# EAGLE library part 88-00153-02 (library circuit_tree)
IC
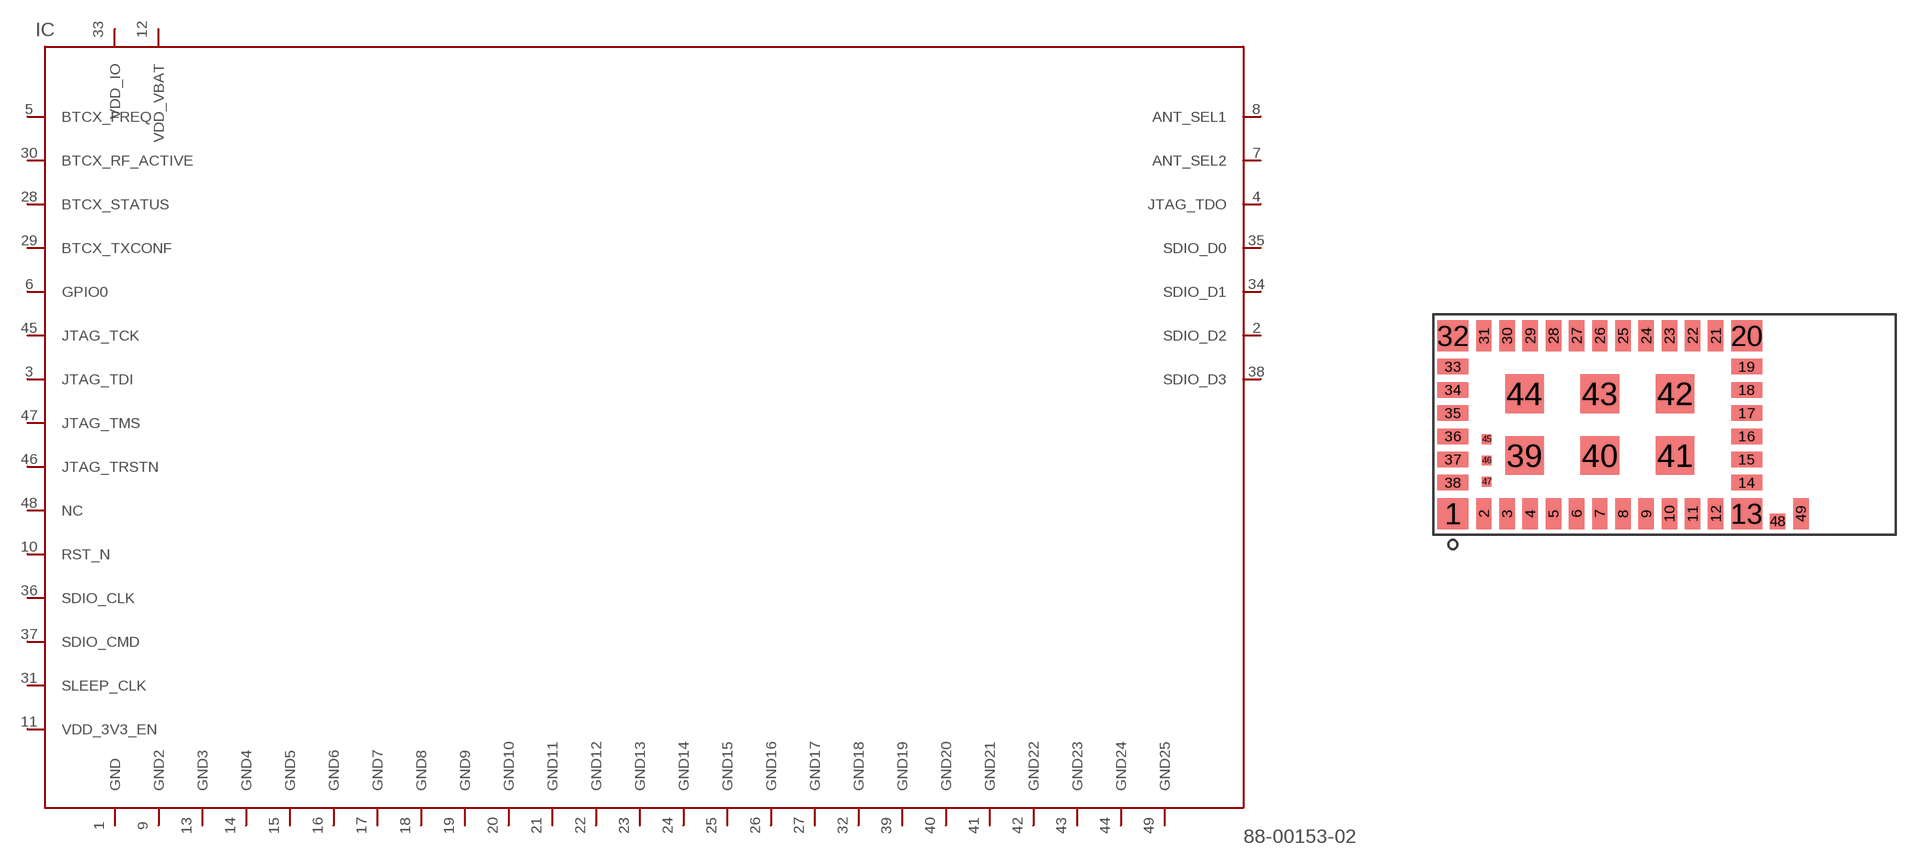
[diagram p1: symbol with the pads of 88-00153-02; footprint 88-00153-02]

Designator prefix IC

## 88-00153-02  [88-00153-02]
1  GND  pas
2  SDIO_D2  pas
3  JTAG_TDI  pas
4  JTAG_TDO  pas
5  BTCX_FREQ  pas
6  GPIO0  pas
7  ANT_SEL2  pas
8  ANT_SEL1  pas
9  GND2  pas
10  RST_N  pas
11  VDD_3V3_EN  pas
12  VDD_VBAT  pas
13  GND3  pas
14  GND4  pas
15  GND5  pas
16  GND6  pas
17  GND7  pas
18  GND8  pas
19  GND9  pas
20  GND10  pas
21  GND11  pas
22  GND12  pas
23  GND13  pas
24  GND14  pas
25  GND15  pas
26  GND16  pas
27  GND17  pas
28  BTCX_STATUS  pas
29  BTCX_TXCONF  pas
30  BTCX_RF_ACTIVE  pas
31  SLEEP_CLK  pas
32  GND18  pas
33  VDD_IO  pas
34  SDIO_D1  pas
35  SDIO_D0  pas
36  SDIO_CLK  pas
37  SDIO_CMD  pas
38  SDIO_D3  pas
39  GND19  pas
40  GND20  pas
41  GND21  pas
42  GND22  pas
43  GND23  pas
44  GND24  pas
45  JTAG_TCK  pas
46  JTAG_TRSTN  pas
47  JTAG_TMS  pas
48  NC  pas
49  GND25  pas

## Footprint 88-00153-02 (pad centres in mm)
smd 1.6 x 1.6: 1 -0.2,0; 13 15,0; 20 15,9.2; 32 -0.2,9.2
smd 0.8 x 1.6: 2 1.4,0; 3 2.6,0; 4 3.8,0; 5 5,0; 6 6.2,0; 7 7.4,0; 8 8.6,0; 9 9.8,0; 10 11,0; 11 12.2,0; 12 13.4,0; 21 13.4,9.2; 22 12.2,9.2; 23 11,9.2; 24 9.8,9.2; 25 8.6,9.2; 26 7.4,9.2; 27 6.2,9.2; 28 5,9.2; 29 3.8,9.2; 30 2.6,9.2; 31 1.4,9.2; 49 17.8,0
smd 1.6 x 0.8: 14 15,1.6; 15 15,2.8; 16 15,4; 17 15,5.2; 18 15,6.4; 19 15,7.6; 33 -0.2,7.6; 34 -0.2,6.4; 35 -0.2,5.2; 36 -0.2,4; 37 -0.2,2.8; 38 -0.2,1.6
smd 2 x 2: 39 3.5,3; 40 7.4,3; 41 11.3,3; 42 11.3,6.2; 43 7.4,6.2; 44 3.5,6.2
smd 0.5 x 0.5: 45 1.55,3.85; 46 1.55,2.75; 47 1.55,1.65
smd 0.8 x 0.8: 48 16.6,-0.4